# EAGLE library part TDA8566Q/TH (library Audio-Power-amlifier V.2.0)
The TDA8566Q is an integrated class-B output amplifier contained in a 17-lead single-in-line (SIL; bent to DIL) plastic power package. The device contains two amplifiers in a Bridge-Tied Load configuration (BTL). The output power is 2 ´ 25 W in a 4 W load or 2 ´ 40 W in a 2 W load. It has a differential input stage and two diagnostic outputs. The device is primarily developed for car radio applications. The TDA8566TH is an integrated class-B output amplifier contained in a 20-lead small outline plastic package. The device contains 2 amplifiers in a Bridge-Tied Load (BTL) configuration. The output power is 2 ´ 25 W in a 4 W load or 2 ´ 40 W in a 2 W load. It has a differential input stage and 2 diagnostic outputs. The device is primarily developed for car radio applications.
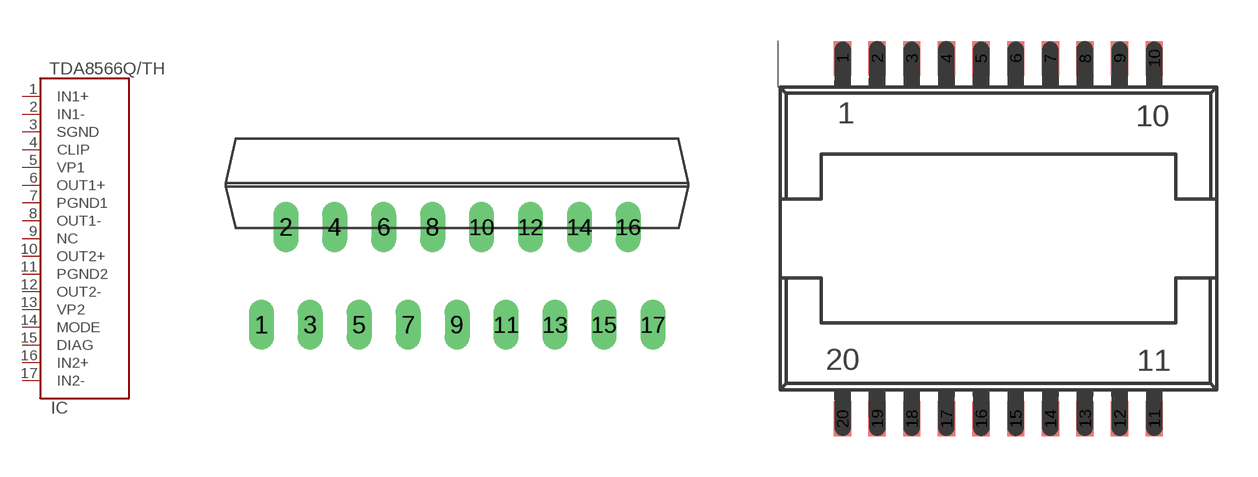
[diagram p208: symbol with the pads of SOT243-1; footprints SOT243-1, SOT418-3]

Designator prefix IC

## TDA8566Q/THTDA8566Q  [SOT243-1]
1  IN1+  in
2  IN1-  in
3  SGND  pwr
4  CLIP
5  VP1  pwr
6  OUT1+  out
7  PGND1  pwr
8  OUT1-  out
9  NC  nc
10  OUT2+  out
11  PGND2  pwr
12  OUT2-  out
13  VP2  pwr
14  MODE  in
15  DIAG  in
16  IN2+  in
17  IN2-  in

## TDA8566Q/THTDA8566TH  [SOT418-3]
1  DIAG  in
2  IN2+  in
3  IN2-  in
6  NC  nc
8  IN1+  in
9  IN1-  in
10  SGND  pwr
11  CLIP
12  VP1  pwr
13  OUT1+  out
14  PGND1  pwr
15  OUT1-  out
16  OUT2+  out
17  PGND2  pwr
18  OUT2-  out
19  VP2  pwr
20  MODE  in

## Footprint SOT243-1 (pad centres in mm)
DBS17P: plastic DIL-bent-SIL power package; 17 leads (lead length 7.7 mm)
drill 0.8 long: 1 -10.16,-5.08; 2 -8.89,0; 3 -7.62,-5.08; 4 -6.35,0; 5 -5.08,-5.08; 6 -3.81,0; 7 -2.54,-5.08; 8 -1.27,0; 9 0,-5.08; 10 1.27,0; 11 2.54,-5.08; 12 3.81,0; 13 5.08,-5.08; 14 6.35,0; 15 7.62,-5.08; 16 8.89,0; 17 10.17,-5.08

## Footprint SOT418-3 (pad centres in mm)
smd 0.635 x 1.27: 1 -5.715,6.615; 2 -4.445,6.615; 3 -3.175,6.615; 4 -1.905,6.615; 5 -0.635,6.615; 6 0.635,6.615; 7 1.905,6.615; 8 3.175,6.615; 9 4.445,6.615; 10 5.715,6.615; 11 5.715,-6.615; 12 4.445,-6.615; 13 3.175,-6.615; 14 1.905,-6.615; 15 0.635,-6.615; 16 -0.635,-6.615; 17 -1.905,-6.615; 18 -3.175,-6.615; 19 -4.445,-6.615; 20 -5.715,-6.615